# EAGLE library part 05_PINHEAD_1X14 (library femtoduino)
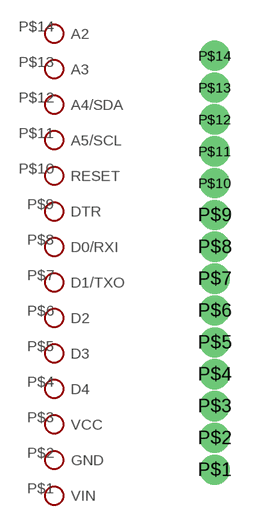
[diagram p3: symbol with the pads of 05_PINHEAD_1X14_PACKAGE; footprint 05_PINHEAD_1X14_PACKAGE]

Designator prefix -

## 05_PINHEAD_1X14  [05_PINHEAD_1X14_PACKAGE]
P$1  VIN
P$2  GND
P$3  VCC
P$4  D4
P$5  D3
P$6  D2
P$7  D1/TXO
P$8  D0/RXI
P$9  DTR
P$10  RESET
P$11  A5/SCL
P$12  A4/SDA
P$13  A3
P$14  A2

## Footprint 05_PINHEAD_1X14_PACKAGE (pad centres in mm)
drill 0.7 pad 1.016: P$1 0,0; P$2 0,1.27; P$3 0,2.54; P$4 0,3.81; P$5 0,5.08; P$6 0,6.35; P$7 0,7.62; P$8 0,8.89; P$9 0,10.16; P$10 0,11.43; P$11 0,12.7; P$12 0,13.97; P$13 0,15.24; P$14 0,16.51